# Altium footprint library PcbLib1.PcbLib: 95 footprints (part 1 of 6)
Each footprint in its own frame and in the unit in brackets; x right, y up, seen from the top. Pads: shape width x height; smd on the part's side, far side on the other; paste and mask are expansions set on the pad; w line width, h text height; cw(c..) or ccw(c..) is an arc to the next point about the centre after c.
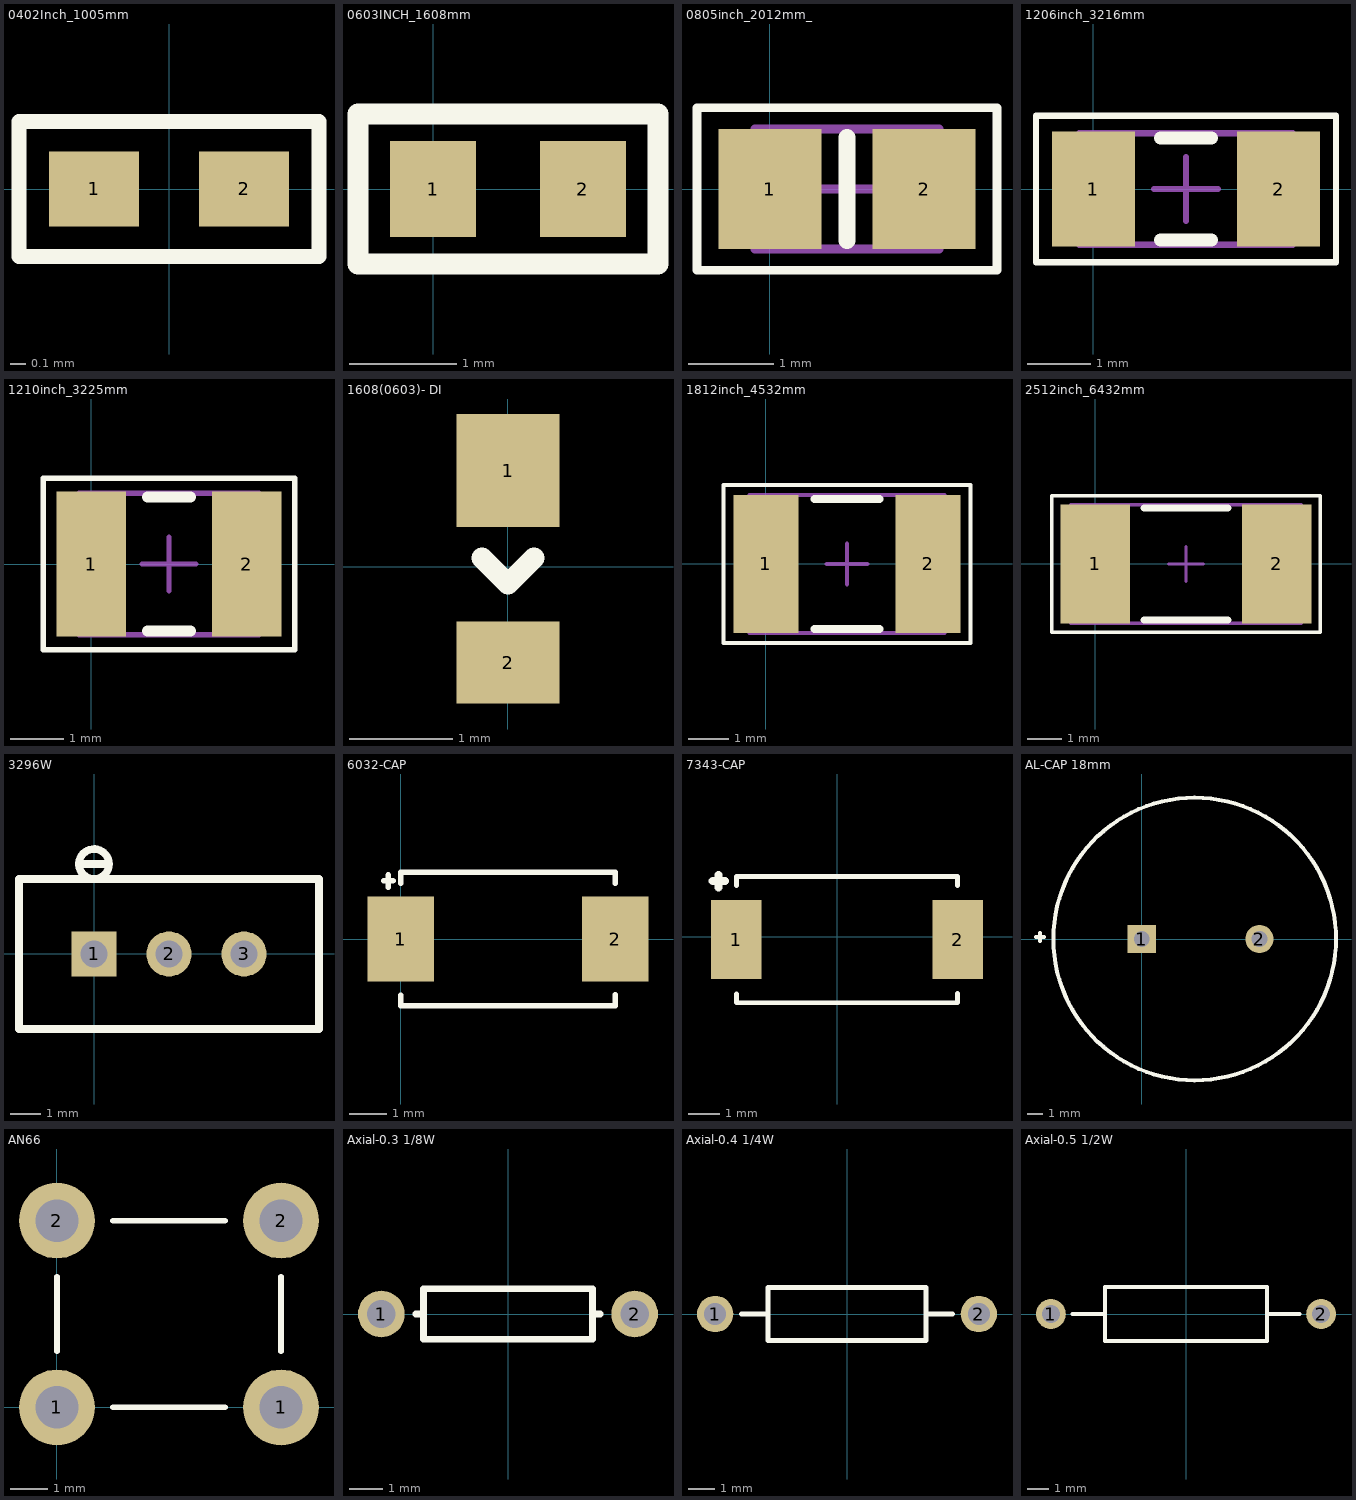
[diagram p0: the footprints below, top view; thin cyan lines are the x and y axes]

## 0402Inch_1005mm [mm]
pads (2):
  rect 0.6x0.5 smd: 1(-0.5,0) 2(0.5,0)
Top Overlay:
  lines w0.1: -1,-0.45 1,-0.45 1,0.45 -1,0.45 -1,-0.45
3D body: height 0.4, standoff 0, extent 0.305,-0.279 0.533,0.279
3D body: height 0.4, standoff 0, extent -0.508,-0.279 -0.279,0.279
3D body: height 0.3, standoff 0.1, extent -0.5,-0.254 0.516,0.254

## 0603INCH_1608mm [mm]
pads (2):
  rect 0.8x0.9 smd: 1(0,0) 2(1.4,0)
Top Overlay:
  lines w0.2: -0.7,-0.7 2.1,-0.7 2.1,0.7 -0.7,0.7 -0.7,-0.7
3D body: height 0.5, standoff 0, extent 1.346,-0.457 1.473,0.457
3D body: height 0.5, standoff 0, extent -0.025,-0.457 0.102,0.457
3D body: height 0.4, standoff 0.1, extent 0,-0.432 1.448,0.432

## 0805inch_2012mm_ [mm]
pads (2):
  rect 1.2x1.4 smd: 1(0,0) 2(1.8,0)
Top Overlay:
  lines w0.1: -0.85,-0.95 2.65,-0.95 2.65,0.95 -0.85,0.95 -0.85,-0.95
  lines w0.2: 0.9,-0.6 0.9,0.6
Mechanical 13:
  lines w0.1: -0.175,-0.7 -0.175,0.7 1.975,0.7 1.975,-0.7 -0.175,-0.7
Mechanical 15:
  lines w0.1: 0.4,0 1.4,0 ; 0.9,-0.5 0.9,0.5
3D body: height 0.7, standoff 0, extent -0.175,-0.7 1.975,0.7

## 1206inch_3216mm [mm]
pads (2):
  rect 1.3x1.8 smd: 1(0,0) 2(2.9,0)
Top Overlay:
  lines w0.1: -0.9,-1.15 3.8,-1.15 3.8,1.15 -0.9,1.15 -0.9,-1.15
  lines w0.2: 1.05,-0.8 1.85,-0.8 ; 1.05,0.8 1.85,0.8
Mechanical 13:
  lines w0.1: -0.225,-0.875 3.125,-0.875 3.125,0.875 -0.225,0.875 -0.225,-0.875
Mechanical 15:
  lines w0.1: 0.95,0 1.95,0 ; 1.45,-0.5 1.45,0.5
3D body: height 0.71, standoff 0, extent -0.225,-0.875 3.125,0.875

## 1210inch_3225mm [mm]
pads (2):
  rect 1.3x2.7 smd: 1(0,0) 2(2.9,0)
Top Overlay:
  lines w0.1: -0.9,-1.6 -0.9,1.6 3.8,1.6 3.8,-1.6 -0.9,-1.6
  lines w0.2: 1.05,-1.25 1.85,-1.25 ; 1.05,1.25 1.85,1.25
Mechanical 13:
  lines w0.1: -0.225,-1.32 -0.225,1.32 3.125,1.32 3.125,-1.32 -0.225,-1.32
Mechanical 15:
  lines w0.1: 0.95,0 1.95,0 ; 1.45,-0.5 1.45,0.5
3D body: height 0.71, standoff 0, extent -0.225,-1.32 3.125,1.32

## 1608(0603)- DI [mm]
pads (2):
  rect 1x1.1 smd: 1(0,0.933)
  rect 1x0.8 smd: 2(0,-0.933)
Top Overlay:
  lines w0.203: -0.254,0.083 0,-0.171 0.254,0.083

## 1812inch_4532mm [mm]
pads (2):
  rect 1.6x3.4 smd: 1(0,0) 2(4,0)
Top Overlay:
  lines w0.1: -1.05,-1.95 5.05,-1.95 5.05,1.95 -1.05,1.95 -1.05,-1.95
  lines w0.2: 1.2,-1.6 2.8,-1.6 ; 1.2,1.6 2.8,1.6
Mechanical 13:
  lines w0.1: -0.4,-1.7 4.4,-1.7 4.4,1.7 -0.4,1.7 -0.4,-1.7
Mechanical 15:
  lines w0.1: 1.5,0 2.5,0 ; 2,-0.5 2,0.5
3D body: height 0.71, standoff 0, extent -0.4,-1.7 4.4,1.7

## 2512inch_6432mm [mm]
pads (2):
  rect 2x3.4 smd: 1(0,0) 2(5.2,0)
Top Overlay:
  lines w0.1: -1.25,-1.95 -1.25,1.95 6.45,1.95 6.45,-1.95 -1.25,-1.95
  lines w0.2: 1.4,-1.6 3.8,-1.6 ; 1.4,1.6 3.8,1.6
Mechanical 13:
  lines w0.1: -0.7,-1.7 5.9,-1.7 5.9,1.7 -0.7,1.7 -0.7,-1.7
Mechanical 15:
  lines w0.1: 2.1,0 3.1,0 ; 2.6,-0.5 2.6,0.5
3D body: height 1.2, standoff 0, extent -0.7,-1.7 5.9,1.7

## 3296W [mm]
height 10
pads (3):
  rect 1.5x1.5 hole 0.9: 1(0,0)
  round 1.5 hole 0.9: 2(2.5,0) 3(5,0)
Top Overlay:
  circle w0.254: c0,3 r0.5
  lines w0.254: -0.4,3 0.5,3 ; -2.5,-2.5 7.5,-2.5 7.5,2.5 -2.5,2.5 -2.5,-2.5
3D body: height 0, standoff -3, extent 4.75,-0.229 5.258,0.279
3D body: height 0, standoff -3, extent 2.21,-0.229 2.794,0.279
3D body: height 0, standoff -3, extent -0.305,-0.254 0.254,0.254
3D body: height 10, standoff 0, extent -2.311,-2.337 7.341,2.311

## 6032-CAP [mm]
height 2.8
pads (2):
  rect 1.8x2.3 smd: 1(0,0) 2(5.8,0)
Top Overlay:
  lines w0.152: -0.457,1.575 -0.203,1.575 ; -0.33,1.397 -0.33,1.727 ; 0,-1.522 0,-1.8 5.8,-1.8 5.8,-1.507 ; 0,1.507 0,1.8 5.8,1.8 5.8,1.507

## 7343-CAP [mm]
pads (2):
  rect 1.6x2.5 smd: 1(-3.186,-0.083) 2(3.814,-0.083)
Top Overlay:
  lines w0.152: -3.186,-1.805 -3.186,-2.083 3.814,-2.083 3.814,-1.79 ; -3.186,1.624 -3.186,1.917 3.814,1.917 3.814,1.624
  lines w0.254: -3.937,1.778 -3.556,1.778 ; -3.759,1.575 -3.759,1.956

## AL-CAP 18mm [mm]
height 35
pads (2):
  rect 1.8x1.8 hole 1: 1(0,0)
  round 1.8 hole 1: 2(7.5,0)
Top Overlay:
  circle w0.254: c3.375,0 r9
  lines w0.254: -6.731,0.127 -6.223,0.127 ; -6.477,-0.127 -6.477,0.381

## AN66 [mil]
pads (4):
  round 80 hole 45: 1(0,0) 1(236.22,0) 2(0,196.85) 2(236.22,196.85)
Top Overlay:
  lines w6: 0,59.06 0,137.8 ; 59.06,0 177.17,0 ; 59.06,196.85 177.17,196.85 ; 236.22,59.06 236.22,137.8

## Axial-0.3 1/8W [mm]
height 1.524
pads (2):
  round 1.4 hole 0.85: 1(-3.81,0) 2(3.81,0)
Top Overlay:
  lines w0.2: -2.769,0 -2.54,0 ; 2.769,0 2.54,0 ; 2.54,0 2.54,0.762 -2.54,0.762 -2.54,-0.762 2.54,-0.762 2.54,0

## Axial-0.4 1/4W [mm]
height 2.032
pads (2):
  round 1.4 hole 0.85: 1(-5.08,0) 2(5.08,0)
Top Overlay:
  lines w0.2: -4.064,0 -3.048,0 ; 3.048,0 4.064,0 ; -3.048,-1.016 -3.048,1.016 3.048,1.016 3.048,-1.016 -3.048,-1.016

## Axial-0.5 1/2W [mm]
height 2.54
pads (2):
  round 1.4 hole 0.85: 1(-6.35,0) 2(6.35,0)
Top Overlay:
  lines w0.2: -5.334,0 -3.81,0 ; 3.81,0 5.334,0 ; -3.81,-1.27 -3.81,1.27 3.81,1.27 3.81,-1.27 -3.81,-1.27